# EAGLE library part MAX14870ETC+T (library motor_drivers)
MAXIM INTEGRATED PRODUCTS - MAX14870ETC+T - DC MOTOR DRIVER, FULL BRIDGE, TDFN-12 Source: Datasheet <https://datasheets.maximintegrated.com/en/ds/MAX14870-MAX14872.pdf>
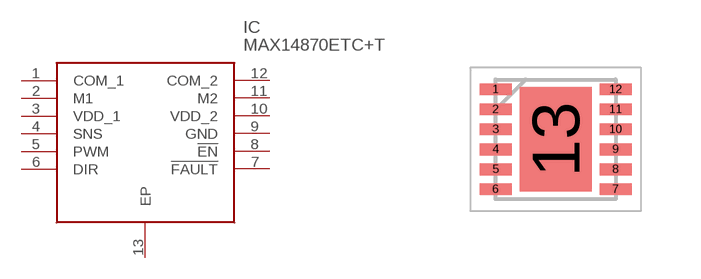
[diagram p5: symbol with the pads of SON50P300X300X80-13N; footprint SON50P300X300X80-13N]

Designator prefix IC

## MAX14870ETC+T (DESCRIPTION: MAXIM INTEGRATED PRODUCTS - MAX14870ETC+T - DC MOTOR DRIVER, FULL BRIDGE, TDFN-12; HEIGHT: 0.8mm; MANUFACTURER_NAME: Maxim Integrated; MANUFACTURER_PART_NUMBER: MAX14870ETC+T; MOUSER_PART_NUMBER: 700-MAX14870ETC+T; MOUSER_PRICE-STOCK: https://www.mouser.com/Search/Refine.aspx?Keyword=700-MAX14870ETC%2BT)  [SON50P300X300X80-13N]
1  COM_1
2  M1
3  VDD_1
4  SNS
5  PWM
6  DIR
7  !FAULT
8  !EN
9  GND
10  VDD_2
11  M2
12  COM_2
13  EP

## Footprint SON50P300X300X80-13N (pad centres in mm)
12 TDFN-EP
smd 0.8 x 0.3: 1 -1.5,1.25; 2 -1.5,0.75; 3 -1.5,0.25; 4 -1.5,-0.25; 5 -1.5,-0.75; 6 -1.5,-1.25; 7 1.5,-1.25; 8 1.5,-0.75; 9 1.5,-0.25; 10 1.5,0.25; 11 1.5,0.75; 12 1.5,1.25
smd 1.8 x 2.6: 13 0,0